# EAGLE library part 750310660 (library Midcom Inc - EAGLE Lib V2-0)
Package Style: EE16/8/5 Mounting: THT Pins: 6 pins Bobbin: 070-5366 Best pinouts for production vary per application. Please contact Wurth Electronics Midcom, Inc. for assistance with your custom design. Website: Wurth Electronics Midcom <http://www.we-online.com/midcom> Contact us Wurth Electronics Midcom, Inc. 121 Airport Dr. Watertown, SD 57201 Phone: (605) 886-4385 Fax: (605) 886-4486 E-Mail: midcom@we-online.com
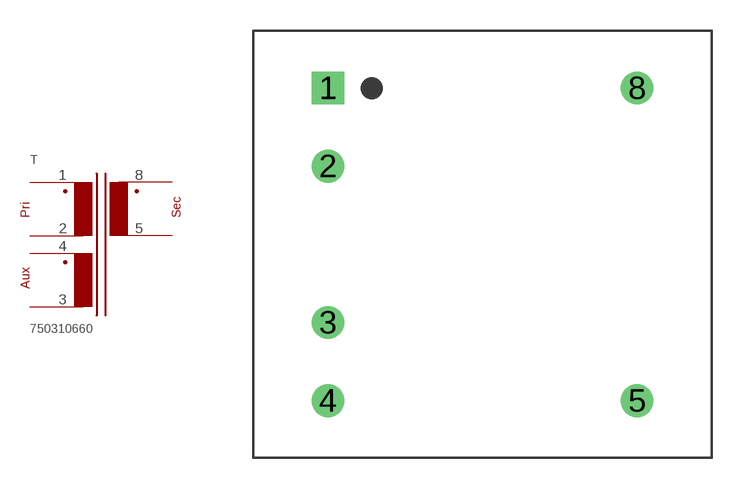
[diagram p317: symbol with the pads of EE16/8/5_THT_H_6PIN_(5366); footprint EE16/8/5_THT_H_6PIN_(5366)]

Designator prefix T

## 750310660  [EE16/8/5_THT_H_6PIN_(5366)]
1  1  pas
2  2  pas
3  3  pas
4  4  pas
5  5  pas
8  8  pas

## Footprint EE16/8/5_THT_H_6PIN_(5366) (pad centres in mm)
Package Style: EE16/8/5 Mounting: THT Pins: 8 Bobbin: 070-5366
drill 1.067 square: 1 -7.531,7.62
drill 1.067: 2 -7.531,3.81; 3 -7.531,-3.81; 4 -7.531,-7.62; 5 7.531,-7.62; 8 7.531,7.62